# Altium schematic symbol library UCDFR Transistors.SchLib: 6 symbols
Pins are listed as number, name and electrical type; pins without a type are passive.

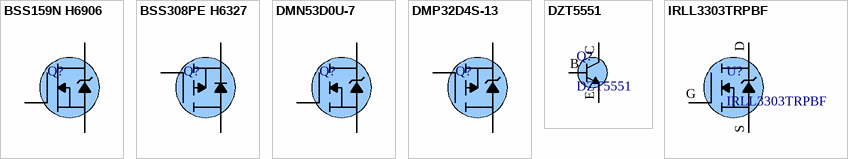
[diagram p0: symbols BSS159N H6906 to IRLL3303TRPBF]

## BSS159N H6906
designator Q?  (value not drawn)
Infineon Tech., NMOS Dep., 60Vds, 20Vgs, 230mA, 360mW; Manufacturer: Infineon Technologies; Mfg. PN: BSS159N H6906; Digi-Key PN: BSS159N H6906CT-ND
footprint SOT-23
pins: 1 "Gate", 2 "Source", 3 "Drain"

## BSS308PE H6327
designator Q?  (value not drawn)
Infineon Tech., Small Signal, PMOS; Manufacturer: Infineon Tech.; Mfg. PN: BSS308PE H6327; Digi-Key PN: BSS308PE H6327CT-ND
footprint SOT-23
pins: 1 "Gate", 2 "Source", 3 "Drain"

## DMN53D0U-7
designator Q?, comment NMOS  (value not drawn)
Diodes Inc., NMOS, 50Vds, 30Vgs, 300mA, 520mW; Manufacturer: Diodes Incorporated; Mfg. PN: DMN53D0U-7; Digi-Key PN: DMN53D0U-7DICT-ND
footprint SOT-23
pins: 1 "Gate", 2 "Source", 3 "Drain"

## DMP32D4S-13
designator Q?, comment PMOS  (value not drawn)
Diodes Inc., PMOS, 30Vds, 20Vgs, 300mA, 370mW; Manufacturer: Diodes Incorporated; Mfg. PN: DMP32D4S-13; Digi-Key PN: DMP32D4S-13DICT-ND
footprint SOT-23
pins: 1 "Gate", 2 "Source", 3 "Drain"

## DZT5551
designator Q?
Diode Inc., NPN BJT,; Manufacturer: Diodes Inc.; Mfg. PN: DZT5551-13; Digi-Key PN: DZT5551DICT-ND
footprint DZT5551 (Diodes Inc. NPN BJT)
pins: B, C, E

## IRLL3303TRPBF
designator U?
MOSFET N-CH 30V 4.6A SOT223; Manufacturer: International Rectifier; Mfg. PN: IRLL3303TRPBF; Digi-Key PN: IRLL3303PBFCT-ND
footprint IRLL3303TRPBF (SOT223)
pins: D, G "Pin1 - Gate", S "- Source"